# Altium footprint library CAP300RP.PcbLib: 2 footprints
Each footprint in its own frame and in the unit in brackets; x right, y up, seen from the top. Pads: shape width x height; smd on the part's side, far side on the other; paste and mask are expansions set on the pad; w line width, h text height; cw(c..) or ccw(c..) is an arc to the next point about the centre after c.
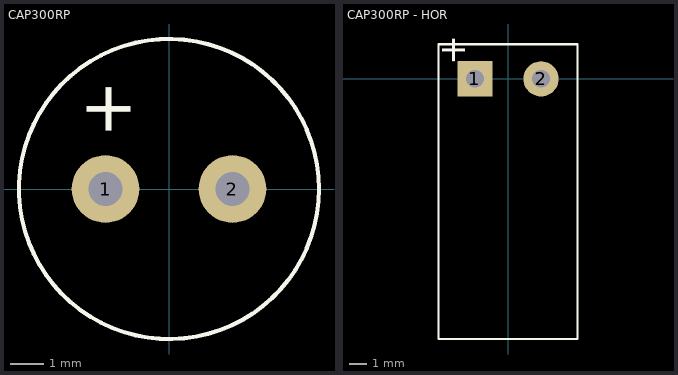
[diagram p0: the footprints below, top view; thin cyan lines are the x and y axes]

## CAP300RP [mil]
pads (2):
  round 80 hole 40: 1(-75,0) 2(75,0)
Top Overlay:
  circle w5: c0,0 r177.17
  text "+" at -45,60 h60

## CAP300RP - HOR [mil]
pads (2):
  rect 80x80 hole 40: 1(-75,0)
  round 80 hole 40: 2(75,0)
Top Overlay:
  lines w5: -157.48,-590.55 -157.48,78.74 157.48,78.74 157.48,-590.55 -157.48,-590.55
  text "+" at -97,30.5 h60